# Altium footprint library 5329.PcbLib: 1 footprints
Each footprint in its own frame and in the unit in brackets; x right, y up, seen from the top. Pads: shape width x height; smd on the part's side, far side on the other; paste and mask are expansions set on the pad; w line width, h text height; cw(c..) or ccw(c..) is an arc to the next point about the centre after c.
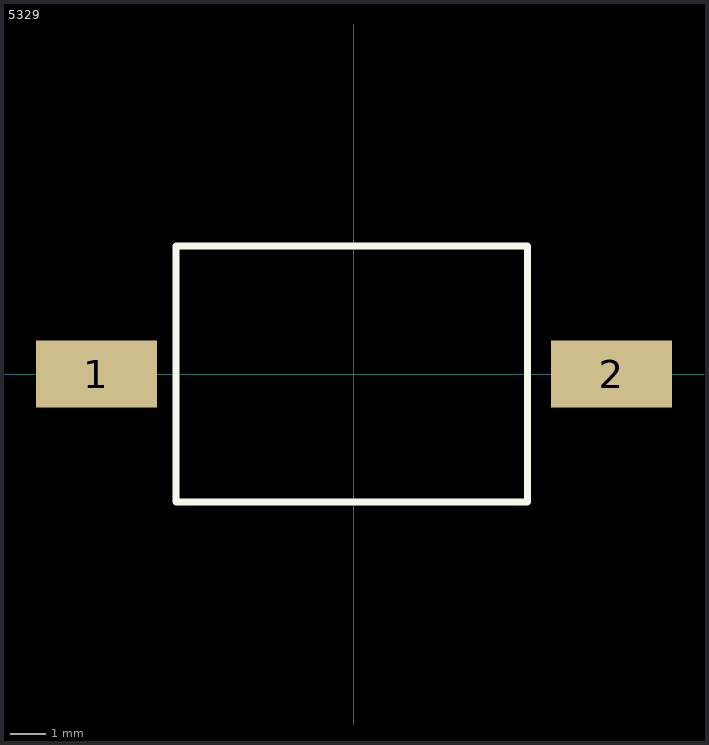
[diagram p0: the footprint, top view; thin cyan lines are the x and y axes]

## 5329 [mm]
pads (2):
  rect 3.45x1.9 smd: 1(-7.35,0) 2(7.35,0)
Top Overlay:
  lines w0.2: -5.08,-3.65 -5.08,3.65 4.953,3.65 4.953,-3.65 -5.08,-3.65
3D body "SMW58R2JT.stp": height 6.8, standoff 0, extent -6.81,-3.65 6.81,3.65